# Altium footprint library PCB_Library.PcbLib: 21 footprints (part 2 of 2)
Each footprint in its own frame and in the unit in brackets; x right, y up, seen from the top. Pads: shape width x height; smd on the part's side, far side on the other; paste and mask are expansions set on the pad; w line width, h text height; cw(c..) or ccw(c..) is an arc to the next point about the centre after c.
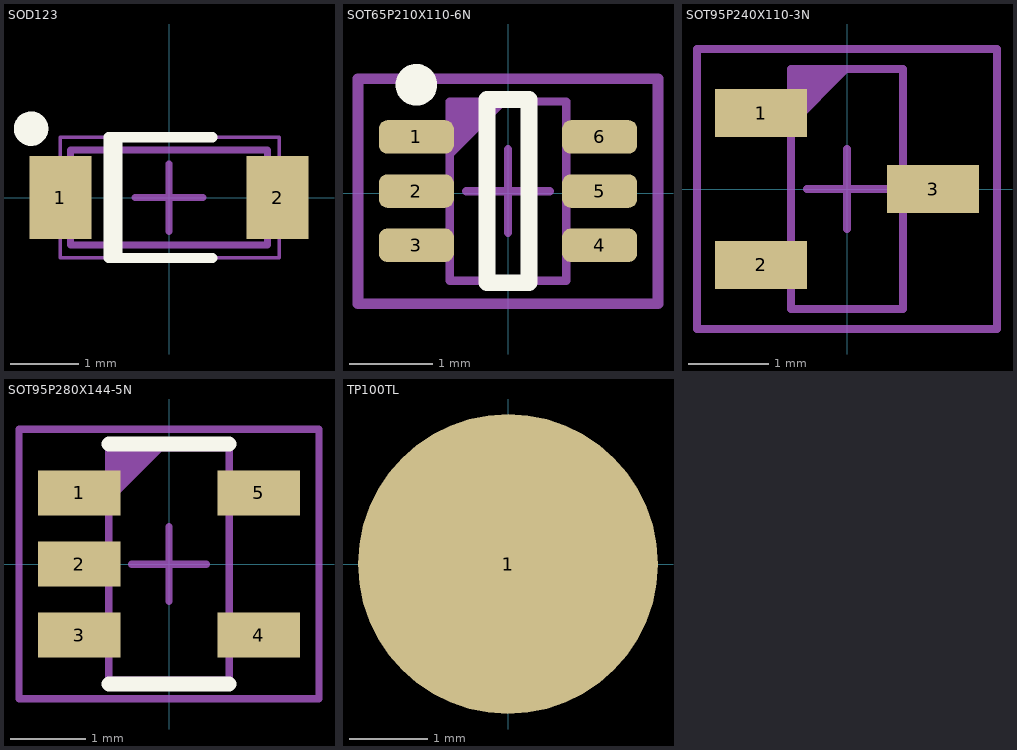
[diagram p1: the footprints below, top view; thin cyan lines are the x and y axes]

## SOD123 [mil] "Molded Diode, 2-Leads, Body 2.85x1.8mm, IPC Medium Density (SOD123)"
height 125.98
pads (2):
  rect 36x48 smd: 1(-63,0) 2(63,0)
Top Overlay:
  circle w10: c-80,40 r5
  lines w6: -30,-35 -30,35 ; 25,-35 -35,-35 -35,35 25,35
Mechanical 5:
  rectangle: -63,-22 -45.74,22
  lines w2: -63,-35 64,-35 64,35 -63,35 -63,-35
  text ".Designator" at -14,-10 h20
Mechanical 15:
  lines w3.94: -19.69,0 19.68,0 ; 0,-19.69 0,19.68 ; -57.09,-27.56 57.09,-27.56 57.09,27.56 -57.09,27.56 -57.09,-27.56
3D body "SOD123.STEP": height 50, standoff 0, extent -72.84,-31.5 72.84,31.5

## SOT65P210X110-6N [mm] "SC70, 6-Leads, Body 2.4x2.2mm (max), Pitch 0.65mm, IPC Medium Density"
height 1.1
pads (6):
  rrect50% 0.9x0.4 smd mask+0.076: 1(-1.1,0.675) 2(-1.1,0.025) 3(-1.1,-0.625) 4(1.1,-0.625) 5(1.1,0.025) 6(1.1,0.675)
Top Overlay:
  circle w0.25: c-1.1,1.3 r0.125
  lines w0.203: -0.25,-1.075 -0.25,1.125 0.25,1.125 0.25,-1.075 -0.25,-1.075
Mechanical 5:
  region: -0.7,1.1 0,1.1 -0.7,0.4
  lines w0.1: -0.7,-1.05 -0.7,1.1 0.7,1.1 0.7,-1.05 -0.7,-1.05
  text ".Designator" at -0.356,-0.254 h0.51
Mechanical 15:
  lines w0.1: -0.5,0.025 0.5,0.025 ; 0,-0.475 0,0.525
  lines w0.127: -1.8,-1.325 -1.8,1.375 1.8,1.375 1.8,-1.325 -1.8,-1.325
3D body "SOT65P210X110-6N.STEP": height 0.99, standoff -0.01, extent -1.1,-0.975 1.1,1.013

## SOT95P240X110-3N [mm] "SOT23, 3-Leads, Body 3.0x2.5mm (max), Pitch 0.95mm, IPC Medium Density"
height 1.1
pads (3):
  rect 1.15x0.6 smd: 1(-1.075,0.95) 2(-1.075,-0.95) 3(1.075,0)
Mechanical 5:
  region: -0.7,1.5 0.05,1.5 -0.7,0.75
  lines w0.1: -0.7,-1.5 0.7,-1.5 0.7,1.5 -0.7,1.5 -0.7,-1.5
  text ".Designator" at -0.356,-0.254 h0.51
Mechanical 15:
  lines w0.1: -0.5,0 0.5,0 ; 0,-0.5 0,0.5 ; -1.875,-1.75 -1.875,1.75 1.875,1.75 1.875,-1.75 -1.875,-1.75
3D body "SOT95P240X110-3N.STEP": height 0.99, standoff -0.01, extent -1.2,-1.45 1.2,1.45

## SOT95P280X144-5N [mm] "SOT23, 5-Leads, Body 3.1x3.0mm (max), Pitch 0.95mm, IPC Medium Density (RFMD SOT23-5)"
height 1.44
pads (5):
  rect 1.1x0.6 smd: 1(-1.2,0.95) 2(-1.2,0) 3(-1.2,-0.95) 4(1.2,-0.95) 5(1.2,0.95)
Top Overlay:
  lines w0.2: -0.8,-1.6 0.8,-1.6 ; -0.8,1.6 0.8,1.6
Mechanical 5:
  region: -0.805,1.55 -0.05,1.55 -0.805,0.8
  lines w0.1: -0.805,-1.55 -0.805,1.55 0.805,1.55 0.805,-1.55 -0.805,-1.55
  text ".Designator" at -0.356,-0.254 h0.51
Mechanical 15:
  lines w0.1: -0.5,0 0.5,0 ; 0,-0.5 0,0.5 ; -2,-1.8 -2,1.8 2,1.8 2,-1.8 -2,-1.8
3D body "SOT-23.STEP": height 1.45, standoff 0, extent -1.4,-1.45 1.4,1.45

## TP100TL [mm] "Test Point"
height 1.27
pads (1):
  round 3.81 smd paste-2.032 mask+0.076: 1(0,0)
Mechanical 5:
  circle w0.1: c0,0 r0.9
  text ".Designator" at -0.33,-0.279 h0.51
Mechanical 15:
  circle w0.1: c0,0 r0.9
  lines w0.1: -0.275,0 0.275,0 ; 0,-0.275 0,0.275